# Altium schematic symbol library fc_components_sch_lib.SchLib: 40 symbols (part 2 of 2)
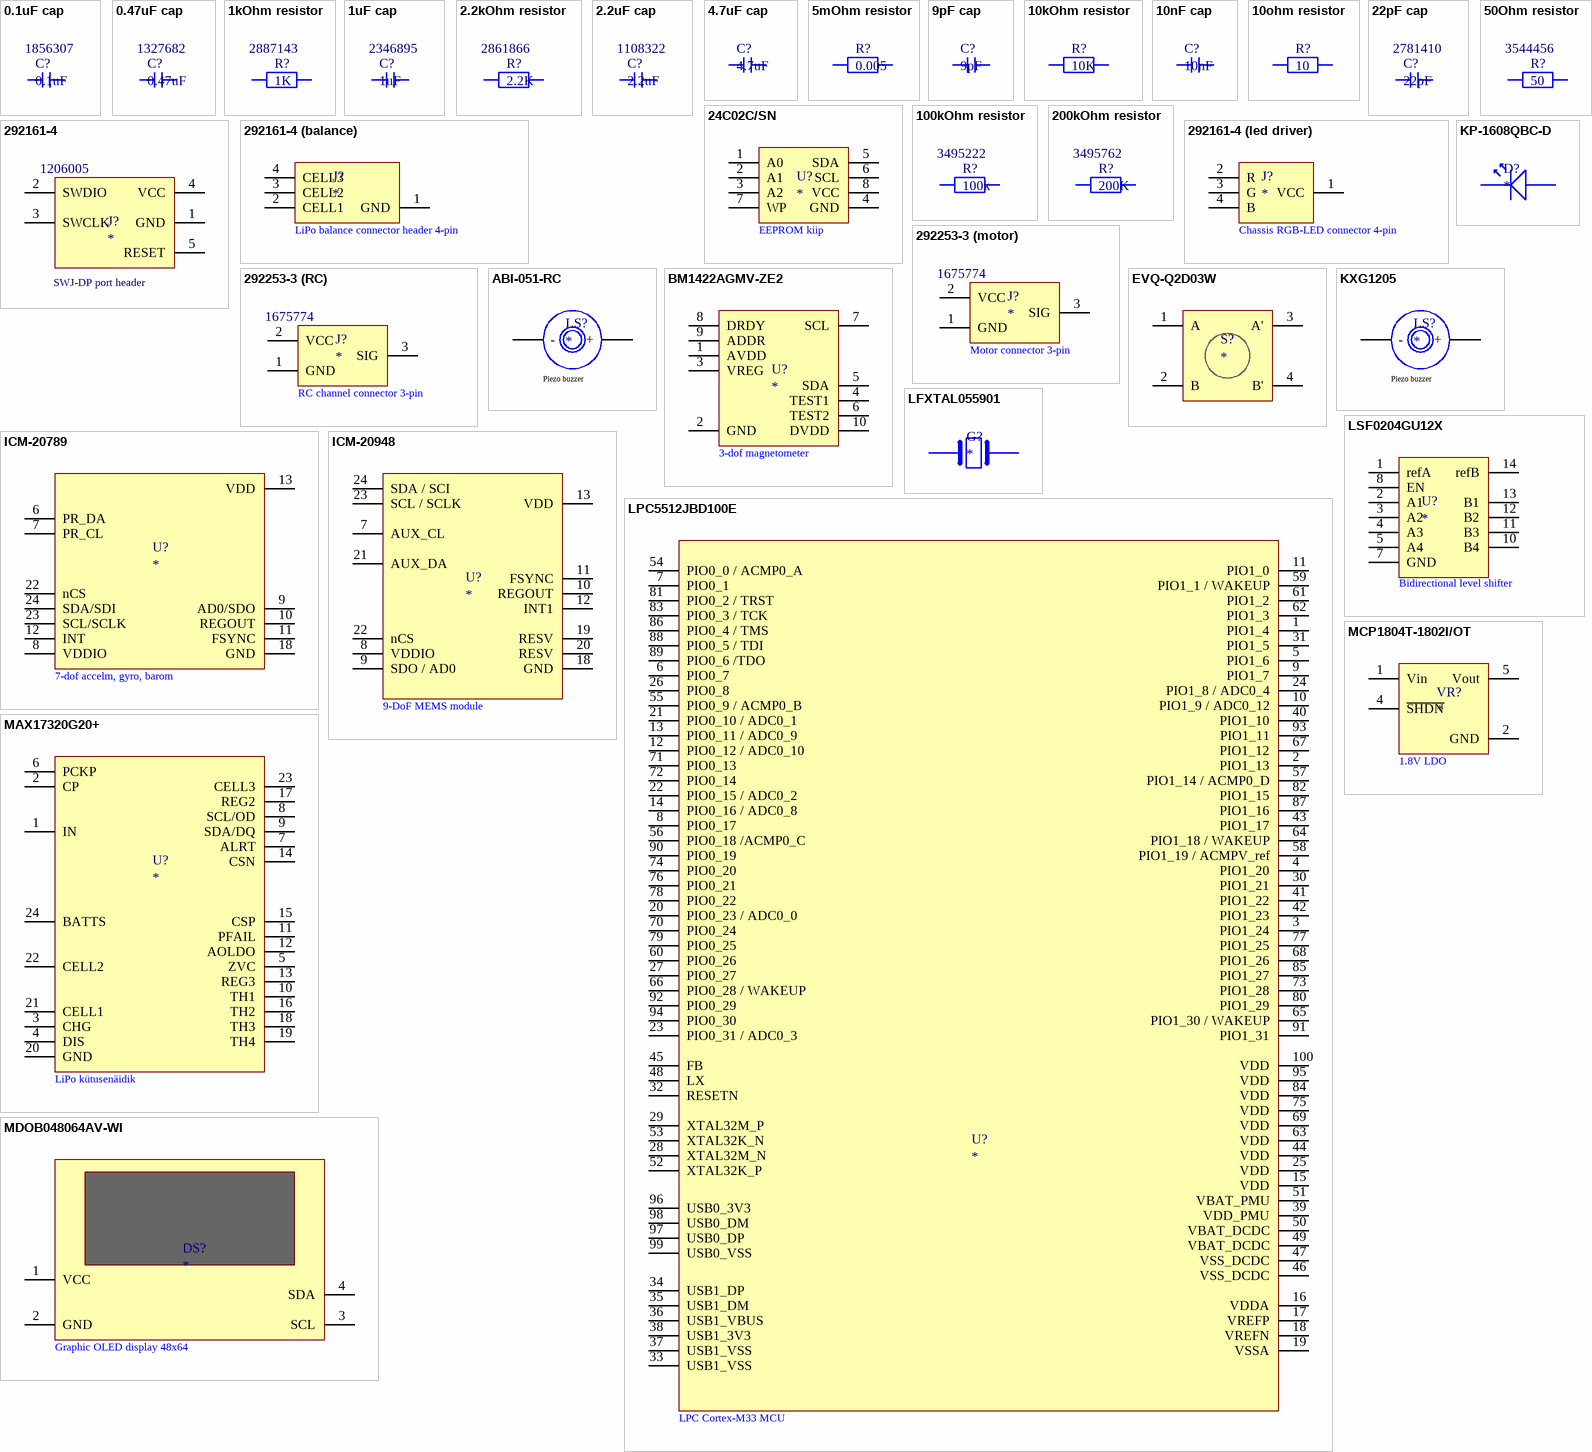
[diagram p3: symbols 0.1uF cap to MDOB048064AV-WI]

## ICM-20789
designator U?
Accelerometer and Gyroscope/Pressure Sensor 7-Axis I2C Digital-Out 24-Pin LGA T/R; Manufacturer: TDK InvenSense; Manufacturer Part Number: ICM-20789; Supplier 1: Farnell; Stock 1: 0; Mount: Surface Mount; Case/Package: LGA; Min Operating Temperature: -40°C; Max Operating Temperature: 85°C; Output Type: I2C; Packaging: Cut Tape; RoHS Compliant: Yes; ComponentLink1URL: http://www.invensense.com/wp-content/uploads/2017/10/DS-000169-ICM-20789-TYP-v1.3.pdf?src-supplier=Digi-Key; ComponentLink1Description: http://www.invensense.com/wp-content/uploads/2017/10/DS-000169-ICM-20789-TYP-v1.3.pdf?src-supplier=Digi-Key; ComponentLink2URL: http://www.farnell.com/datasheets/2632661.pdf?src-supplier=Farnell; ComponentLink2Description: http://www.farnell.com/datasheets/2632661.pdf?src-supplier=Farnell; ComponentLink3URL: http://www.farnell.com/datasheets/2632661.pdf?src-supplier=Newark; ComponentLink3Description: http://www.farnell.com/datasheets/2632661.pdf?src-supplier=Newark; Supplier Part Number 1: 2911497RL
footprint (IMU)LGA-24 (LGA, 24-Leads, Body 4,00x4,00mmx1,47mm, Pitch 0,50mm)
pins: 6 PR_DA, 7 PR_CL, 8 VDDIO, 9 AD0/SDO, 10 REGOUT, 11 FSYNC, 12 INT, 13 VDD, 18 GND, 22 nCS, 23 SCL/SCLK, 24 SDA/SDI
text: 7-dof accelm, gyro, barom

## ICM-20948
designator U?
IMU ACCEL/GYRO/COMPI2C/SPI 24QFN; Manufacturer: TDK InvenSense; Manufacturer Part Number: ICM-20948; Sensor Type: Accelerometer,Gyroscope,Magnetometer; Output Type: SPI,I2C; Supplier 1: Farnell; Stock 1: 0; Pricing 1: 1=6.72, 10=4.51, 25=4.42, 50=4.33 (EUR); Mount: Surface Mount; Case/Package: QFN; Min Operating Temperature: -40°C; Max Operating Temperature: 85°C; Packaging: Tape and Reel; RoHS Compliant: Yes; ComponentLink1URL: https://www.invensense.com/wp-content/uploads/2016/06/App-Note-eMD-20x48-User-Guide.pdf?src-supplier=Avnet; ComponentLink1Description: https://www.invensense.com/wp-content/uploads/2016/06/App-Note-eMD-20x48-User-Guide.pdf?src-supplier=Avnet; ComponentLink2URL: https://www.invensense.com/wp-content/uploads/2016/06/App-Note-eMD-20x48-User-Guide.pdf?src-supplier=Avnet+Europe; ComponentLink2Description: https://www.invensense.com/wp-content/uploads/2016/06/App-Note-eMD-20x48-User-Guide.pdf?src-supplier=Avnet+Europe; ComponentLink3URL: https://www.invensense.com/wp-content/uploads/2016/06/App-Note-eMD-20x48-User-Guide.pdf?src-supplier=Digi-Key; ComponentLink3Description: https://www.invensense.com/wp-content/uploads/2016/06/App-Note-eMD-20x48-User-Guide.pdf?src-supplier=Digi-Key; ComponentLink4URL: http://www.farnell.com/datasheets/2632662.pdf?src-supplier=Farnell; ComponentLink4Description: http://www.farnell.com/datasheets/2632662.pdf?src-supplier=Farnell; ComponentLink5URL: http://www.farnell.com/datasheets/2632662.pdf?src-supplier=Element14; ComponentLink5Description: http://www.farnell.com/datasheets/2632662.pdf?src-supplier=Element14; ComponentLink6URL: http://www.farnell.com/datasheets/2632662.pdf?src-supplier=Newark; ComponentLink6Description: http://www.farnell.com/datasheets/2632662.pdf?src-supplier=Newark; ComponentLink7URL: https://www.invensense.com/wp-content/uploads/2016/06/App-Note-eMD-20x48-User-Guide.pdf?src-supplier=Component+Distributors+Inc.; ComponentLink7Description: https://www.invensense.com/wp-content/uploads/2016/06/App-Note-eMD-20x48-User-Guide.pdf?src-supplier=Component+Distributors+Inc.; Supplier Part Number 1: 2911498
pins: 7 AUX_CL, 8 VDDIO, 9 SDO / AD0, 10 REGOUT, 11 FSYNC, 12 INT1, 13 VDD, 18 GND, 19 RESV, 20 RESV, 21 AUX_DA, 22 nCS, 23 SCL / SCLK, 24 SDA / SCI
text: 9-DoF MEMS module

## KP-1608QBC-D
designator D?
LED Uni-Color Blue 468nm 2-Pin Chip LED T/R; Manufacturer: Kingbright; Manufacturer Part Number: KP-1608QBC-D; Lens Color: Clear; Viewing Angle: 120°; Lens Style: Diffused,Colorless,Circular,Rectangular; Number of LEDs: 1; Wavelength: 465nm; Luminous Intensity: 100mcd; Forward Voltage: 3.3V; Dominant Wavelength: 470nm; Forward Current: 20mA; Supplier 1: Farnell; Stock 1: 2000; Pricing 1: 2000=0.1 (EUR); Mount: Surface Mount; Case/Package: 1608; Number of Pins: 2; Color: Blue; Packaging: Tape and Reel; Series: KP; Length: 0.8mm; Width: 1.6mm; Height: 1.1mm; Radiation Hardening: No; REACH SVHC: No SVHC; RoHS Compliant: No; ComponentLink1URL: http://www.farnell.com/datasheets/2045913.pdf?src-supplier=Element14; ComponentLink1Description: http://www.farnell.com/datasheets/2045913.pdf?src-supplier=Element14; ComponentLink2URL: http://www.produktinfo.conrad.com/datenblaetter/1000000-1099999/001050379-da-01-en-SMD_CHIPLED_BL_0603_KP_1608QBC_D.pdf?src-supplier=Conrad; ComponentLink2Description: http://www.produktinfo.conrad.com/datenblaetter/1000000-1099999/001050379-da-01-en-SMD_CHIPLED_BL_0603_KP_1608QBC_D.pdf?src-supplier=Conrad; Supplier Part Number 1: 2449779
footprint 0603 - resistor (Chip Resistor, 2-Leads, Body 1,55x0,85mm, IPC Medium Density)
pins: 1, 2

## KXG1205
designator LS?
KINGSTATE         KXG1205            BUZZER, MAGNETIC, PIN, TRANSDUCER; Max Supply Voltage: 8V; Min Supply Voltage: 3V; Max Frequency: 2.6kHz; Nominal Supply Current: 45mA; Self Resonant Frequency: 2.4kHz; Supply Current: 30mA; Min Frequency: 2kHz; Supplier 1: Farnell; Manufacturer: Kingstate; Manufacturer Part Number: KXG1205; Stock 1: 11339; Mount: Through Hole; Min Operating Temperature: -30°C; Max Operating Temperature: 70°C; Diameter: 12mm; Height: 9.5mm; REACH SVHC: Unknown; ComponentLink1URL: http://uk.rs-online.com/webdocs/1113/0900766b81113b94.pdf?src-supplier=RSComponents; ComponentLink1Description: http://uk.rs-online.com/webdocs/1113/0900766b81113b94.pdf?src-supplier=RSComponents; Supplier Part Number 1: 2215079; Pricing 1: 1=0.545, 5=0.527, 10=0.455, 20=0.438, 40=0.422, 100=0.404, 500=0.385 (EUR)
pins: 1 +, 2 -
text: Piezo buzzer

## LFXTAL055901
designator G?
Crystal, 8MHZ, 18PF, 5MM X 3.2MM; Manufacturer: IQD; Manufacturer Part Number: LFXTAL055901; Supplier 1: Farnell; Stock 1: 2188; Pricing 1: 1=0.729, 50=0.517, 100=0.457, 250=0.43, 500=0.404, 1000=0.377, 5000=0.35 (EUR); Supplier Part Number 1: 2832062
footprint kristall
pins: 3, 4

## LPC5512JBD100E
designator U?
MCU 32-Bit LPC5512 ARM Cortex-M33 RISC 64KB Flash 1.8V to 3.6V 100-Pin HLQFP Tray; Manufacturer: NXP Semiconductors; Manufacturer Part Number: LPC5512JBD100E; Supplier 1: Farnell; Stock 1: 70; RoHS Compliant: Yes; Supplier Part Number 1: 3385148; Pricing 1: 1=6.98, 10=4.28, 25=4.19, 50=4.11 (EUR)
footprint TSQFP50P1600X1600X160_HS-101N (TSQFP, 100-Leads, Body 14,00x14,00mm, Pitch 0,50mm, Thermal Pad 3,61x3,61mm, IPC Medium Density)
pins: 1 PIO1_4, 2 PIO1_13, 3 PIO1_24, 4 PIO1_20, 5 PIO1_6, 6 PIO0_7, 7 PIO0_1, 8 PIO0_17, 9 PIO1_7, 10 PIO1_9 / ADC0_12, 11 PIO1_0, 12 PIO0_12 / ADC0_10, 13 PIO0_11 / ADC0_9, 14 PIO0_16 / ADC0_8, 15 VDD, 16 VDDA, 17 VREFP, 18 VREFN, 19 VSSA, 20 PIO0_23 / ADC0_0, 21 PIO0_10 / ADC0_1, 22 PIO0_15 / ADC0_2, 23 PIO0_31 / ADC0_3, 24 PIO1_8 / ADC0_4, 25 VDD, 26 PIO0_8, 27 PIO0_27, 28 XTAL32M_N, 29 XTAL32M_P, 30 PIO1_21, 31 PIO1_5, 32 RESETN, 33 USB1_VSS, 34 USB1_DP, 35 USB1_DM, 36 USB1_VBUS, 37 USB1_VSS, 38 USB1_3V3, 39 VDD_PMU, 40 PIO1_10, 41 PIO1_22, 42 PIO1_23, 43 PIO1_17, 44 VDD, 45 FB, 46 VSS_DCDC, 47 VSS_DCDC, 48 LX, 49 VBAT_DCDC, 50 VBAT_DCDC, 51 VBAT_PMU, 52 XTAL32K_P, 53 XTAL32K_N, 54 PIO0_0 / ACMP0_A, 55 PIO0_9 / ACMP0_B, 56 PIO0_18 /ACMP0_C, 57 PIO1_14 / ACMP0_D, 58 PIO1_19 / ACMPV_ref, 59 PIO1_1 / WAKEUP, 60 PIO0_26, 61 PIO1_2, 62 PIO1_3, 63 VDD, 64 PIO1_18 / WAKEUP, 65 PIO1_30 / WAKEUP, 66 PIO0_28 / WAKEUP, 67 PIO1_12, 68 PIO1_26, 69 VDD, 70 PIO0_24, 71 PIO0_13, 72 PIO0_14, 73 PIO1_28, 74 PIO0_20, 75 VDD, 76 PIO0_21, 77 PIO1_25, 78 PIO0_22, 79 PIO0_25, 80 PIO1_29, 81 PIO0_2 / TRST, 82 PIO1_15, 83 PIO0_3 / TCK, 84 VDD, 85 PIO1_27, 86 PIO0_4 / TMS, 87 PIO1_16, 88 PIO0_5 / TDI, 89 PIO0_6 /TDO, 90 PIO0_19, 91 PIO1_31, 92 PIO0_29, 93 PIO1_11, 94 PIO0_30, 95 VDD, 96 USB0_3V3, 97 USB0_DP, 98 USB0_DM, 99 USB0_VSS, 100 VDD
text: LPC Cortex-M33 MCU

## LSF0204GU12X
designator U?
Level Translator Bidirectional Multi-Voltage 4-Bit Push-Pull 7V 128mA 12-Pin XQFN T/R; Manufacturer: Nexperia; Manufacturer Part Number: LSF0204GU12X; Supplier 1: Farnell; Stock 1: 5; ComponentLink1URL: https://datasheet.octopart.com/LSF0204GU12X-Nexperia-datasheet-140845892.pdf?src-supplier=Nexperia; ComponentLink1Description: https://datasheet.octopart.com/LSF0204GU12X-Nexperia-datasheet-140845892.pdf?src-supplier=Nexperia; Supplier Part Number 1: 3498160; Pricing 1: 1=0.968, 10=0.797, 100=0.532, 500=0.453 (EUR)
pins: 1 refA, 2 A1, 3 A2, 4 A3, 5 A4, 7 GND, 8 EN, 10 B4, 11 B3, 12 B2, 13 B1, 14 refB
text: Bidirectional level shifter

## MAX17320G20+
designator U?
Fuel Gauge 2S-4S ModelGauge m5 EZ with Protector I2C 4.2V to 18V 24-Pin TQFN; Manufacturer: Maxim; Manufacturer Part Number: MAX17320G20+; Supplier 1: Farnell; Stock 1: 1111; Pricing 1: 1=3.83, 10=3, 25=2.83, 50=2.77 (EUR); Supplier Part Number 1: 3501910
pins: 1 IN, 2 CP, 3 CHG, 4 DIS, 5 ZVC, 6 PCKP, 7 ALRT, 8 SCL/OD, 9 SDA/DQ, 10 TH1, 11 PFAIL, 12 AOLDO, 13 REG3, 14 CSN, 15 CSP, 16 TH2, 17 REG2, 18 TH3, 19 TH4, 20 GND, 21 CELL1, 22 CELL2, 23 CELL3, 24 BATTS
text: LiPo kütusenäidik

## MCP1804T-1802I/OT
designator VR?
MCP1804T-1802I/OT; LDOVoltage Regulator; 150mA; 1.8V +/-2%; 2 to 28Vin; 5-Pin SOT-23; Manufacturer: Microchip; Min Input Voltage: 2V; Max Input Voltage: 28V; Dropout Voltage: 2.2V; Number of Outputs: 1; Max Power Dissipation: 250mW; Polarity: Positive; Quiescent Current: 105uA; Accuracy: 2%; Output Type: Fixed; Supplier 1: Farnell; Manufacturer Part Number: MCP1804T-1802I/OT; Stock 1: 595; Pricing 1: 1=1.04, 25=0.795, 100=0.722 (EUR); Mount: Surface Mount; Case/Package: SOT-23; Number of Pins: 5; Min Operating Temperature: -40°C; Max Operating Temperature: 85°C; Max Output Current: 150mA; Output Voltage: 1.8V; Packaging: Tape and Reel; Output Current: 150mA; Nominal Output Voltage: 1.8V; Min Output Voltage: 1.8V; Length: 3.1mm; Width: 1.8mm; Height: 1.3mm; REACH SVHC: No SVHC; Lead Free: Lead Free; RoHS Compliant: Yes; ComponentLink1URL: http://www.microchip.com/mymicrochip/filehandler.aspx?ddocname=en544680&src-supplier=Future+Electronics; ComponentLink1Description: http://www.microchip.com/mymicrochip/filehandler.aspx?ddocname=en544680&src-supplier=Future+Electronics; ComponentLink2URL: http://www.microchip.com/mymicrochip/filehandler.aspx?ddocname=en533805&src-supplier=Digi-Key; ComponentLink2Description: http://www.microchip.com/mymicrochip/filehandler.aspx?ddocname=en533805&src-supplier=Digi-Key; Supplier Part Number 1: 1825003
footprint (LDO 1.8)SOT95P270X145-5N (SOT23, 5-Leads, Body 2,90x2,70mm, Pitch 0,95mm, IPC Medium Density)
pins: 1 Vin, 2 GND, 4 ~{SHDN}, 5 Vout
text: 1.8V LDO

## MDOB048064AV-WI
designator DS?
Oled Graphic Display, Cob, 48 X 64PIXELS; Manufacturer: Midas; Manufacturer Part Number: MDOB048064AV-WI; Supplier 1: Farnell; Stock 1: 48; Supplier Part Number 1: 3154938; Pricing 1: 1=6.97, 5=6.06, 10=5.81, 50=4.98 (EUR)
footprint oled-display
pins: 1 VCC, 2 GND, 3 SCL, 4 SDA
text: Graphic OLED display 48x64

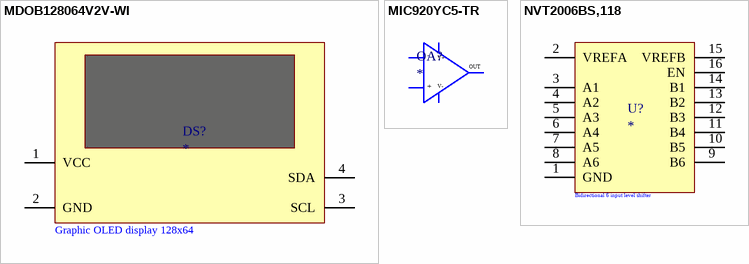
[diagram p1: symbols MDOB128064V2V-WI to NVT2006BS,118]

## MDOB128064V2V-WI
designator DS?
Oled Graphic Display, Cob, 128X64PIXELS; Manufacturer: Midas; Manufacturer Part Number: MDOB128064V2V-WI; Supplier 1: Farnell; Stock 1: 15; Pricing 1: 1=11.89, 5=9.91, 10=9.21, 50=8.5 (EUR); Supplier Part Number 1: 3154943
pins: 1 VCC, 2 GND, 3 SCL, 4 SDA
text: Graphic OLED display 128x64

## MIC920YC5-TR
designator OA?
MIC920 Series 80 MHz 3000 v/us 9 V High-Speed Operational Amplifier - SOT-23-5; Manufacturer: Microchip; Manufacturer Part Number: MIC920YC5-TR; -3db Bandwidth: 115MHz; Slew Rate: 3000V/µs; Number of Channels: 1; Max Supply Voltage: 9V; Gain Bandwidth Product: 80MHz; Input Bias Current: 230nA; Input Offset Voltage (Vos): 300uV; Operating Supply Current: 550uA; Output Current per Channel: 65mA; Amplifier Type: GENERAL PURPOSE; Supplier 1: Farnell; Stock 1: 1311; Mount: Surface Mount; Number of Pins: 5; Min Operating Temperature: -40°C; Max Operating Temperature: 85°C; Package Quantity: 3000; Packaging: Tape and Reel; Number of Circuits: 1; Series: -; Input Offset Voltage-Max: 300uV; Slew Rate-Nom: 3000V/µs; Lead Free: Lead Free; RoHS Compliant: Yes; ComponentLink1URL: http://www.micrel.com/_PDF/mic920.pdf?src-supplier=Future+Electronics; ComponentLink1Description: http://www.micrel.com/_PDF/mic920.pdf?src-supplier=Future+Electronics; Supplier Part Number 1: 2920854; Pricing 1: 1=0.458, 25=0.397, 100=0.382, 3000=0.367 (EUR)
footprint (OPAMP)SOT65P280X110-5N (SOT23, 5-Leads, Body 2,90x2,80mm, Pitch 0,65mm, IPC Medium Density)
pins: 1 +, 2 V-, 3 -, 4 OUT, 5 V+

## NVT2006BS,118
designator U?
NVT2006 Series Bidirectional Open Drain Voltage Level Translator - HVQFN-16; Manufacturer: NXP Semiconductors; Manufacturer Part Number: NVT2006BS,118; Number of Channels: 6; Propagation Delay: 1.5ns; Max Supply Voltage: 5.5V; Min Supply Voltage: 1.8V; Operating Frequency-Max: 33MHz; Supplier 1: Farnell; Stock 1: 6000; Number of Pins: 16; Min Operating Temperature: -40°C; Max Operating Temperature: 85°C; Packaging: Tape and Reel; Package Quantity: 6000; Logic Function: Translator; Number of Bits: 6; Output Type: Voltage; Series: -; Radiation Hardening: No; Lead Free: Lead Free; RoHS Compliant: Yes; ComponentLink1URL: http://www.nxp.com/documents/data_sheet/NVT2003_04_06.pdf?src-supplier=Digi-Key; ComponentLink1Description: http://www.nxp.com/documents/data_sheet/NVT2003_04_06.pdf?src-supplier=Digi-Key; ComponentLink2URL: https://www.nxp.com/docs/en/data-sheet/NVT2003_04_06.pdf?src-supplier=Digi-Key; ComponentLink2Description: https://www.nxp.com/docs/en/data-sheet/NVT2003_04_06.pdf?src-supplier=Digi-Key; ComponentLink3URL: http://ics.nxp.com/interface/to/documents/data_sheet/NVT2003_04_06.pdf?src-supplier=Avnet; ComponentLink3Description: http://ics.nxp.com/interface/to/documents/data_sheet/NVT2003_04_06.pdf?src-supplier=Avnet; Supplier Part Number 1: 2890115; Pricing 1: 1=0.47, 10=0.35, 100=0.336, 500=0.323, 1000=0.309, 2500=0.296, 5000=0.282 (EUR)
footprint QFN5(SHIFTER) 0P300X300X100_HS-17N (QFN, 16-Leads, Body 3,00x3,00mm, Pitch 0,50mm, Thermal Pad 1,50x1,50mm, IPC Medium Density)
pins: 1 GND, 2 VREFA, 3 A1, 4 A2, 5 A3, 6 A4, 7 A5, 8 A6, 9 B6, 10 B5, 11 B4, 12 B3, 13 B2, 14 B1, 15 VREFB, 16 EN
text: Bidirectional 6 input level shifter

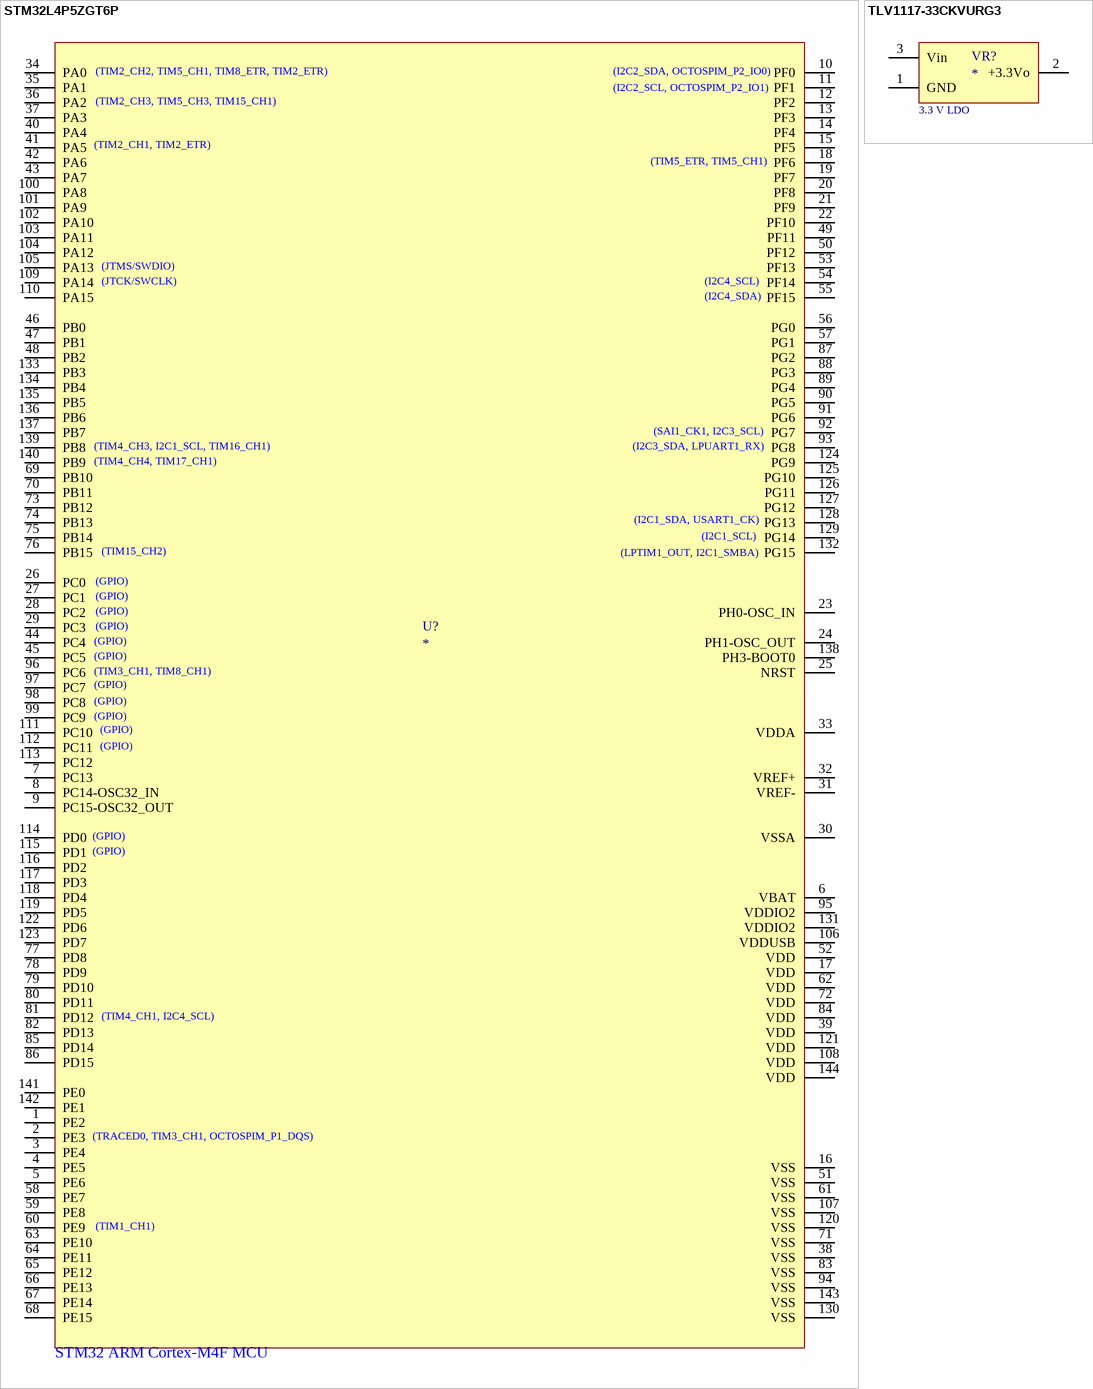
[diagram p2: symbols STM32L4P5ZGT6P to TLV1117-33CKVURG3]

## STM32L4P5ZGT6P
designator U?
Microcontroller 32-Bit ARM Cortex-M4 RISC 1M-Bytes Flash 144-Pin LQFP; Manufacturer: STMicroelectronics; Manufacturer Part Number: STM32L4P5ZGT6P; Pin length: 2.5mm; Supplier 1: Farnell; Stock 1: 10; Pricing 1: 1=14.89, 10=13.04, 25=12.49, 50=12.24 (EUR); Supplier Part Number 1: 3397851
footprint STM32L4P5ZGT6P
pins: 1 PE2, 2 PE3, 3 PE4, 4 PE5, 5 PE6, 6 VBAT, 7 PC13, 8 PC14-OSC32_IN, 9 PC15-OSC32_OUT, 10 PF0, 11 PF1, 12 PF2, 13 PF3, 14 PF4, 15 PF5, 16 VSS, 17 VDD, 18 PF6, 19 PF7, 20 PF8, 21 PF9, 22 PF10, 23 PH0-OSC_IN, 24 PH1-OSC_OUT, 25 NRST, 26 PC0, 27 PC1, 28 PC2, 29 PC3, 30 VSSA, 31 VREF-, 32 VREF+, 33 VDDA, 34 PA0, 35 PA1, 36 PA2, 37 PA3, 38 VSS, 39 VDD, 40 PA4, 41 PA5, 42 PA6, 43 PA7, 44 PC4, 45 PC5, 46 PB0, 47 PB1, 48 PB2, 49 PF11, 50 PF12, 51 VSS, 52 VDD, 53 PF13, 54 PF14, 55 PF15, 56 PG0, 57 PG1, 58 PE7, 59 PE8, 60 PE9, 61 VSS, 62 VDD, 63 PE10, 64 PE11, 65 PE12, 66 PE13, 67 PE14, 68 PE15, 69 PB10, 70 PB11, 71 VSS, 72 VDD, 73 PB12, 74 PB13, 75 PB14, 76 PB15, 77 PD8, 78 PD9, 79 PD10, 80 PD11, 81 PD12, 82 PD13, 83 VSS, 84 VDD, 85 PD14, 86 PD15, 87 PG2, 88 PG3, 89 PG4, 90 PG5, 91 PG6, 92 PG7, 93 PG8, 94 VSS, 95 VDDIO2, 96 PC6, 97 PC7, 98 PC8, 99 PC9, 100 PA8, 101 PA9, 102 PA10, 103 PA11, 104 PA12, 105 PA13, 106 VDDUSB, 107 VSS, 108 VDD, 109 PA14, 110 PA15, 111 PC10, 112 PC11, 113 PC12, 114 PD0, 115 PD1, 116 PD2, 117 PD3, 118 PD4, 119 PD5, 120 VSS, 121 VDD, 122 PD6, 123 PD7, 124 PG9, 125 PG10, 126 PG11, 127 PG12, 128 PG13, 129 PG14, 130 VSS, 131 VDDIO2, 132 PG15, 133 PB3, 134 PB4, 135 PB5, 136 PB6, 137 PB7, 138 PH3-BOOT0, 139 PB8, 140 PB9, 141 PE0, 142 PE1, 143 VSS, 144 VDD
text: (TIM2_CH2, TIM5_CH1, TIM8_ETR, TIM2_ETR); (I2C2_SDA, OCTOSPIM_P2_IO0); (I2C2_SCL, OCTOSPIM_P2_IO1); (TIM2_CH3, TIM5_CH3, TIM15_CH1); (TIM2_CH1, TIM2_ETR); (TIM5_ETR, TIM5_CH1); (JTMS/SWDIO); (JTCK/SWCLK); (I2C4_SCL); (I2C4_SDA); (SAI1_CK1, I2C3_SCL); (TIM4_CH3, I2C1_SCL, TIM16_CH1); (I2C3_SDA, LPUART1_RX); (TIM4_CH4, TIM17_CH1); (I2C1_SDA, USART1_CK); (I2C1_SCL); (TIM15_CH2); (LPTIM1_OUT, I2C1_SMBA); (GPIO); (TIM3_CH1, TIM8_CH1); (TIM4_CH1, I2C4_SCL); (TRACED0, TIM3_CH1, OCTOSPIM_P1_DQS); (TIM1_CH1); STM32 ARM Cortex-M4F MCU

## TLV1117-33CKVURG3
designator VR?
Single-Output LDO, 800mA, Fixed (3.3), Internal Current Limit, Thermal Overload Protection 3-TO-252 0 to 125; Manufacturer: Texas Instruments; Manufacturer Part Number: TLV1117-33CKVURG3; Number of Outputs: 1; Min Input Voltage: 4.7V; Output Voltage: 3.3V; Max Input Voltage: 15V; Polarity: Positive; Quiescent Current: 10mA; Dropout Voltage: 1.2V; Input Bias Current: 5mA; Supplier 1: Farnell; Stock 1: 0; Mount: Surface Mount; Case/Package: TO-252-3; Number of Pins: 3; Min Operating Temperature: -40°C; Max Operating Temperature: 125°C; Max Output Current: 800mA; Output Type: Fixed; Nominal Output Voltage: 3.3V; Output Current: 800mA; Packaging: Tape and Reel; Package Quantity: 1; Number of Regulators: 1; Min Current Limit: 800mA; Series: -; Radiation Hardening: No; REACH SVHC: No SVHC; Lead Free: Lead Free; RoHS Compliant: Yes; ComponentLink1URL: http://www.farnell.com/datasheets/1994335.pdf?src-supplier=Element14; ComponentLink1Description: http://www.farnell.com/datasheets/1994335.pdf?src-supplier=Element14; ComponentLink2URL: http://www.ti.com/lit/ds/symlink/tlv1117.pdf?src-supplier=Digi-Key; ComponentLink2Description: http://www.ti.com/lit/ds/symlink/tlv1117.pdf?src-supplier=Digi-Key; ComponentLink3URL: http://www.ti.com/general/docs/suppproductinfo.tsp?distId=10&amp;gotoUrl=http%3A%2F%2Fwww.ti.com%2Flit%2Fgpn%2Ftlv1117&src-supplier=Digi-Key; ComponentLink3Description: http://www.ti.com/general/docs/suppproductinfo.tsp?distId=10&amp;gotoUrl=http%3A%2F%2Fwww.ti.com%2Flit%2Fgpn%2Ftlv1117&src-supplier=Digi-Key; ComponentLink4URL: http://focus.ti.com/lit/ds/symlink/tlv1117-15.pdf?src-supplier=Avnet+Europe; ComponentLink4Description: http://focus.ti.com/lit/ds/symlink/tlv1117-15.pdf?src-supplier=Avnet+Europe; Supplier Part Number 1: 2463937RL
footprint DPAK229P991X252-3N (D-PAK, 3-Pads, Body 6,20x6,71mm (max), IPC Medium Density)
pins: 1 GND, 2 +3.3Vo (power), 3 Vin
text: 3.3 V LDO